# Altium schematic symbol library Schlib1.SchLib: 19 symbols
Pins are listed as number, name and electrical type; pins without a type are passive.

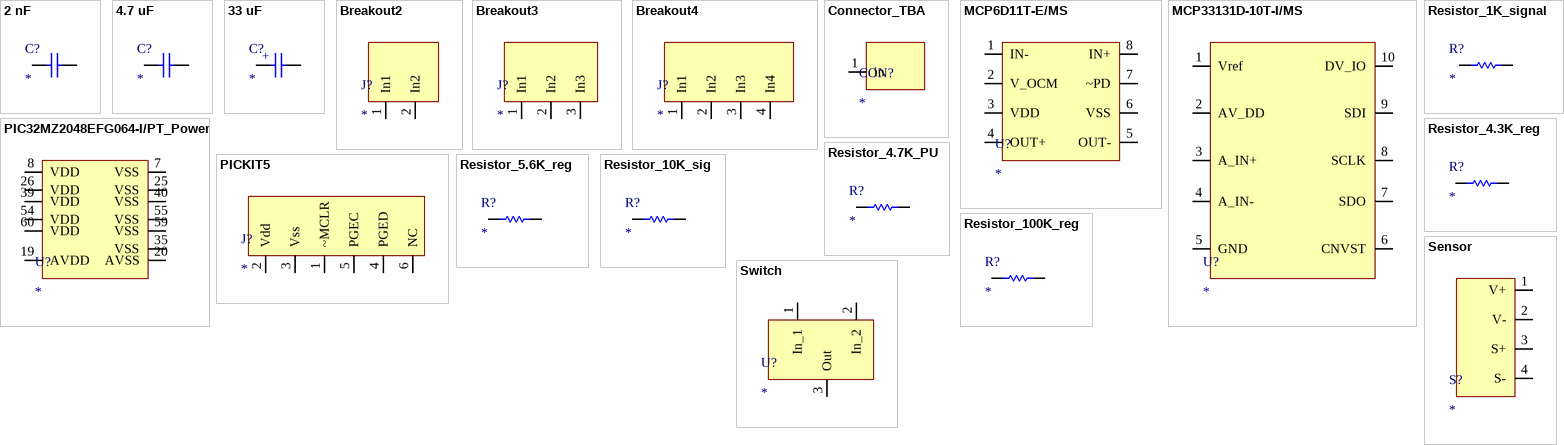
[diagram p0: symbols 2 nF to Switch]

## 2 nF
designator C?
08053A202JAT2A; Supplier 1: Mouser; Supplier Part Number 1: 581-08053A202JAT2A
footprint C_0805 (CAPC2012X140N Ceramic 0805)
pins: 1, 2

## 4.7 uF
designator C?
KAM32LL81H475KU - ceramic; Supplier 1: Mouser; Supplier Part Number 1: 581-KAM32LL81H475KU
footprint C_1206 (CAPC3316X180N AVE 1206)
pins: 1, 2

## 33 uF
designator C?
TX3B336K016C1000 Aluminum; Supplier 1: Mouser; Supplier Part Number 1: 74-TX3B336K016C1000
footprint Tant_33uF (Tantalum)
pins: 1, 2
text: +

## Breakout2
designator J?
footprint Breakout_con2pin
pins: 1 In1, 2 In2

## Breakout3
designator J?
footprint Breakout_con3pin
pins: 1 In1, 2 In2, 3 In3

## Breakout4
designator J?
footprint Breakout_con4pin
pins: 1 In1, 2 In2, 3 In3, 4 In4

## Connector_TBA
designator CON?
pins: 1 in

## MCP6D11T-E/MS
designator U?
Differential Amplifiers Single, Fully Differential Amplifier, E Temp; ComponentLink1Description: New link; ComponentLink1URL: https://www.mouser.com/datasheet/2/268/MCP6D11_Data_Sheet_DS20006162A-3443772.pdf; Supplier 1: Digikey; Supplier Part Number 1: MCP6D11T-E/MSCT-ND
footprint MSOP8
pins: 1 IN-, 2 V_OCM, 3 VDD, 4 OUT+, 5 OUT-, 6 VSS, 7 ~PD, 8 IN+

## MCP33131D-10T-I/MS
designator U?
Analog to Digital Converters - ADC 16-bit, 1 Msps, single channel, differential SAR ADC; ComponentLink1Description: New link; ComponentLink1URL: https://www.mouser.com/datasheet/2/268/MCP33131D_Data_Sheet_DS20005947B-3443995.pdf; Supplier 1: Digikey; Supplier Part Number 1: MCP33131D-10T-I/MSCT-ND
footprint MSOP10
pins: 1 Vref, 2 AV_DD, 3 A_IN+, 4 A_IN-, 5 GND, 6 CNVST, 7 SDO, 8 SCLK, 9 SDI, 10 DV_IO

## PIC32MZ2048EFG064-I/PT_Power
designator U?
Power hookup for PIC32MZ2048EFG064-I/PT
pins: 7 VSS, 8 VDD, 19 AVDD, 20 AVSS, 25 VSS, 26 VDD, 35 VSS, 39 VDD, 40 VSS, 54 VDD, 55 VSS, 59 VSS, 60 VDD

## PICKIT5
designator J?
footprint Breakout_con
pins: 1 ~MCLR, 2 Vdd, 3 Vss, 4 PGED, 5 PGEC, 6 NC

## Resistor_1K_signal
designator R?
Thin Film Resistors - SMD RQ 0603 1K0 0.1% 10PPM 5K RL RQ73C1J1K0BTD; Supplier 1: Future Electronics; Supplier Part Number 1: 5134876
footprint R_0603
pins: 1, 2

## Resistor_4.3K_reg
designator R?
ERA-3ARW432V; Supplier 1: Mouser; Supplier Part Number 1: 667-ERA-3ARW432V
footprint Res_0603 (ERA3AEB101V Panasonic 0603)
pins: 1, 2

## Resistor_4.7K_PU
designator R?
ERA-3AED472V; Supplier 1: Mouser; Supplier Part Number 1: 667-ERA-3AED472V
footprint Res_0603 (ERA3AEB101V Panasonic 0603)
pins: 1, 2

## Resistor_5.6K_reg
designator R?
ERA-3ARB562V; Supplier 1: Mouser; Supplier Part Number 1: 667-ERA-3ARB562V
footprint Res_0603 (ERA3AEB101V Panasonic 0603)
pins: 1, 2

## Resistor_10K_sig
designator R?
ERA-2VRB1002X; Supplier 1: Mouser; Supplier Part Number 1: 667-ERA-2VRB1002X
footprint Res_0603 (ERA3AEB101V Panasonic 0603)
pins: 1, 2

## Resistor_100K_reg
designator R?
RQ73C1J100KBTD; Supplier 1: Avnet; Supplier Part Number 1: 97AC0504
footprint R_0603
pins: 1, 2

## Sensor
designator S?
Board Input Signals
pins: 1 V+, 2 V-, 3 S+, 4 S-

## Switch
designator U?
footprint Switch
pins: 1 In_1, 2 In_2, 3 Out